# EAGLE library part MAX1873 (library BaseApp)
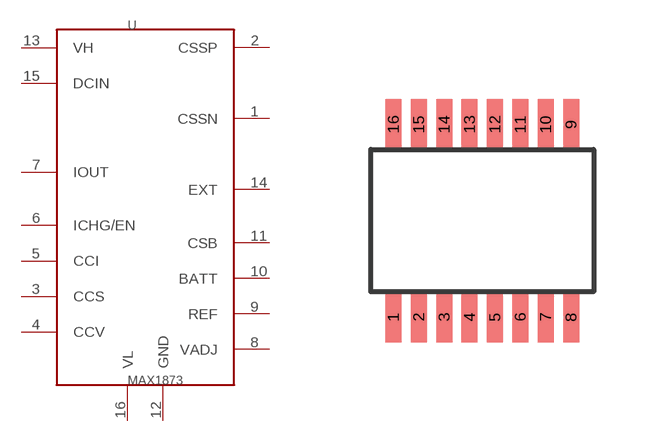
[diagram p111: symbol with the pads of QSOP; footprint QSOP]

Designator prefix -

## MAX1873  [QSOP]
1  CSSN
2  CSSP
3  CCS
4  CCV
5  CCI
6  ICHG/EN
7  IOUT
8  VADJ
9  REF
10  BATT
11  CSB
12  GND
13  VH
14  EXT
15  DCIN
16  VL

## Footprint QSOP (pad centres in mm)
smd 0.4 x 1.27: 1 -2.223,-2.413; 2 -1.587,-2.413; 3 -0.953,-2.413; 4 -0.318,-2.413; 5 0.318,-2.413; 6 0.953,-2.413; 7 1.587,-2.413; 8 2.223,-2.413; 9 2.223,2.413; 10 1.587,2.413; 11 0.953,2.413; 12 0.318,2.413; 13 -0.318,2.413; 14 -0.953,2.413; 15 -1.587,2.413; 16 -2.223,2.413